# EAGLE library part 64800711622 (library Wurth_Elektronik_Electromechanic_Wire_to_Board_Connectors_rev16a)
WR-WTB 1.50mm Male Vertical Shrouded Header, 7 Pins=>Code : Con_WTB_1.50_PCB_THT_64800711622 <http://katalog.we-online.de/media/thumbs2/eican/thb_Con_WTB_1.50_PCB_THT_6480xx11622_pf2.jpg> Details see: http://katalog.we-online.de/en/em/648_0xx_116_22 Created 2014-06-05, Karrer Zheng 2014 (C) Würth Elektronik
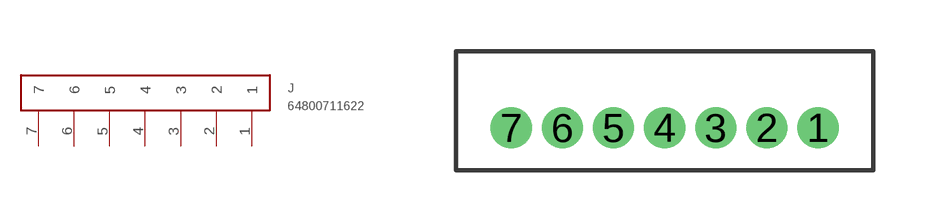
[diagram p73: symbol with the pads of 64800711622; footprint 64800711622]

Designator prefix J

## 64800711622  [64800711622]
1  1  pas
2  2  pas
3  3  pas
4  4  pas
5  5  pas
6  6  pas
7  7  pas

## Footprint 64800711622 (pad centres in mm)
WR-WTB 1.50mm Male Vertical Shrouded Header, 7 Pins
drill 0.7: 1 0.75,0; 2 -0.75,0; 3 -2.25,0; 4 -3.75,0; 5 -5.25,0; 6 -6.75,0; 7 -8.25,0